# Altium footprint library SG__PCB_QFN_DFN.PcbLib: 60 footprints (part 1 of 4)
Each footprint in its own frame and in the unit in brackets; x right, y up, seen from the top. Pads: shape width x height; smd on the part's side, far side on the other; paste and mask are expansions set on the pad; w line width, h text height; cw(c..) or ccw(c..) is an arc to the next point about the centre after c.
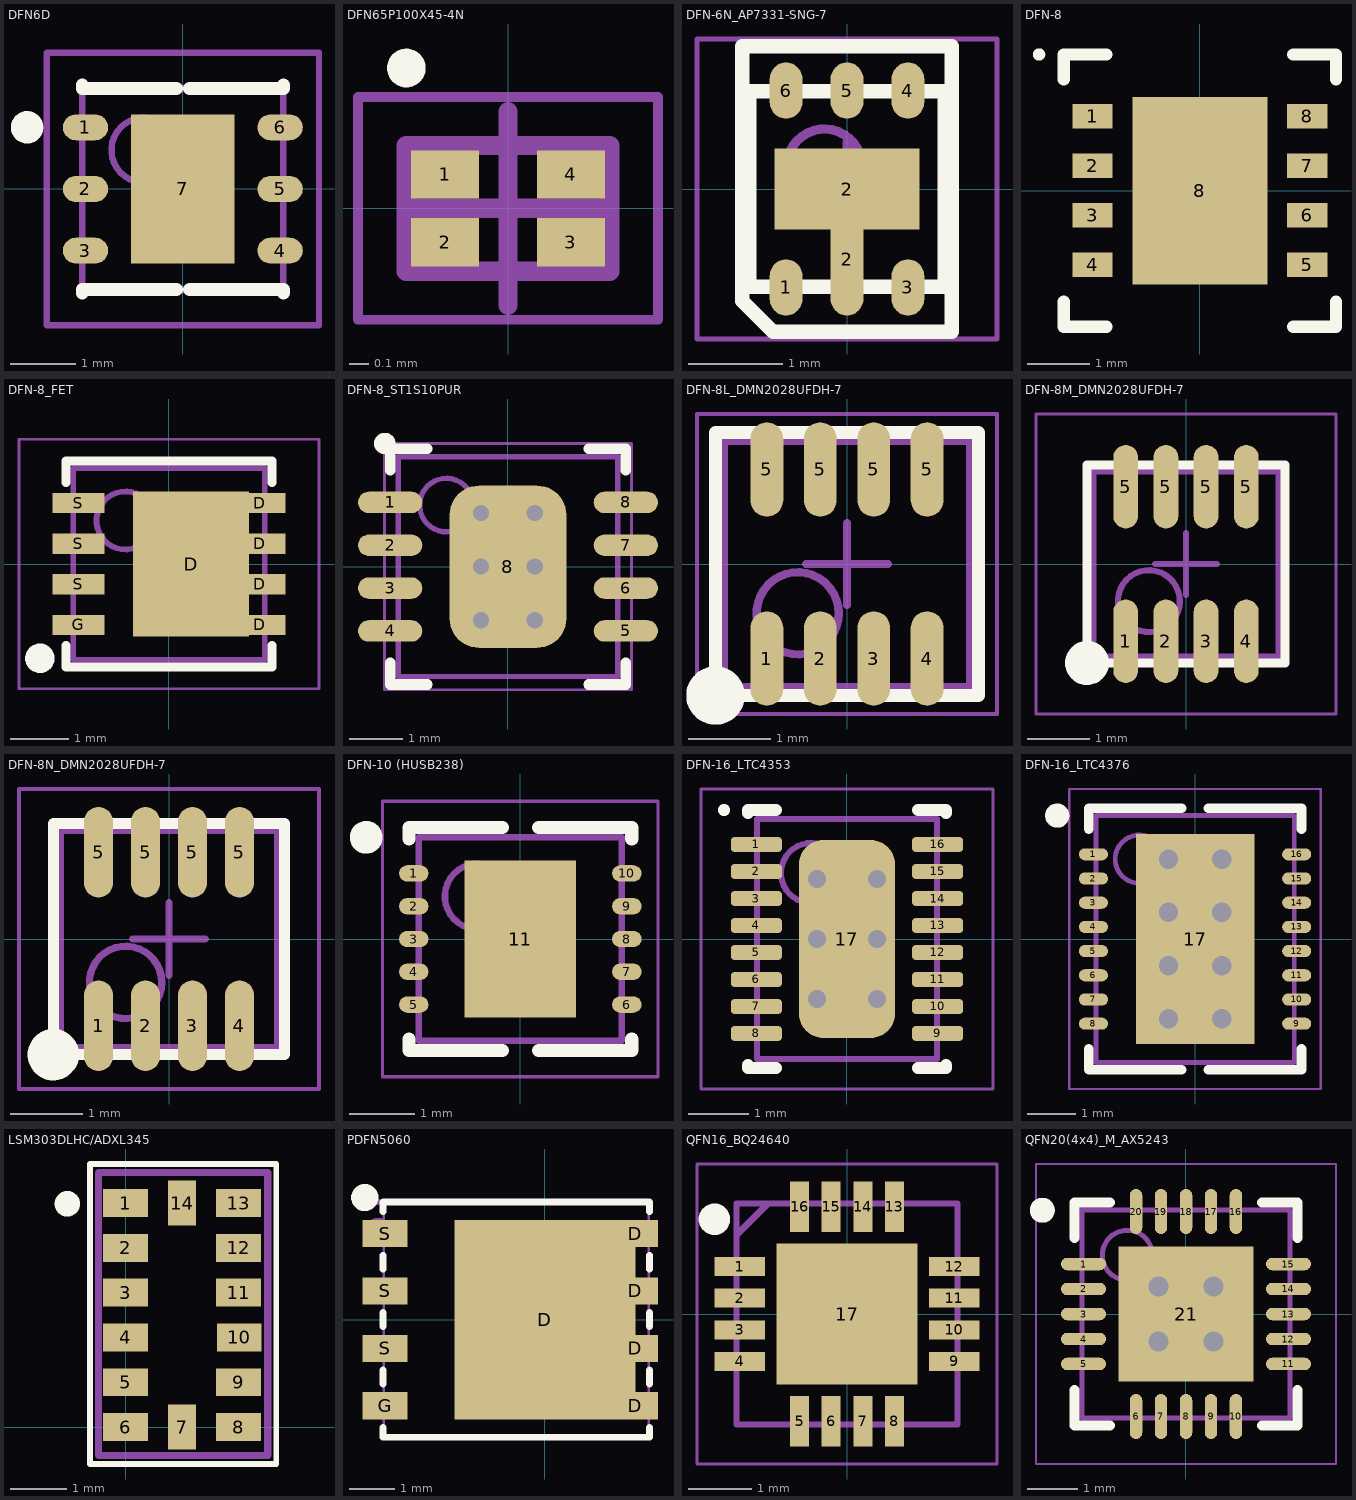
[diagram p0: the footprints below, top view; thin cyan lines are the x and y axes]

## DFN6D [mm] "QFN, 6-Leads, Body 3,1x3,1mm (max), Pitch 0,95mm, IPC Medium Density"
height 0.8
pads (7):
  oval 0.7x0.4 smd: 1(-1.5,0.95) 2(-1.5,0) 3(-1.5,-0.95) 4(1.5,-0.95) 5(1.5,0) 6(1.5,0.95)
  rect 1.6x2.3 smd: 7(0,0)
Top Overlay:
  circle w0.25: c-2.4,0.95 r0.125
  lines w0.2: -1.55,-1.6 -1.55,-1.55 -0.1,-1.55 ; -1.55,1.6 -1.55,1.55 -0.1,1.55 ; 0.1,-1.55 1.55,-1.55 1.55,-1.6 ; 0.1,1.55 1.55,1.55 1.55,1.6
Top Assembly:
  circle w0.1: c-0.6,0.6 r0.5
  lines w0.1: -1.55,-1.55 1.55,-1.55 1.55,1.55 -1.55,1.55 -1.55,-1.55
Bottom Assembly:
  lines w0.1: -0.5,0 0.5,0 ; 0,-0.5 0,0.5
Top Courtyard:
  lines w0.1: -2.1,-2.1 -2.1,2.1 2.1,2.1 2.1,-2.1 -2.1,-2.1
3D body: height 0.8, standoff 0.01, extent -1.55,-1.55 1.55,1.55

## DFN65P100X45-4N [mm] "DFN, 4-Leads, Body 0,60x1,00mm, Pitch 0,65mm, IPC Medium Density"
height 0.45
pads (4):
  rect 0.35x0.25 smd: 1(-0.325,0.175) 2(-0.325,-0.175) 3(0.325,-0.175) 4(0.325,0.175)
Top Overlay:
  circle w0.1: c-0.525,0.725 r0.05
Top Assembly:
  lines w0.1: -0.525,-0.325 0.525,-0.325 0.525,0.325 -0.525,0.325 -0.525,-0.325
Top Courtyard:
  lines w0.05: -0.775,-0.575 0.775,-0.575 0.775,0.575 -0.775,0.575 -0.775,-0.575
  lines w0.1: -0.5,0 0.5,0 ; 0,-0.5 0,0.5
3D body "DFN65P100X45-4N.step": height 0.45, standoff 0, extent -0.525,-0.325 0.525,0.325

## DFN-6N_AP7331-SNG-7 [mm] "QFN, 6-Leads, Body 2,01x2,01mm, Pitch 0,65mm, Thermal Pad 1,55x0,86mm, IPC Medium Density"
height 0.57
pads (7):
  oval 0.35x0.6 smd: 1(-0.65,-1.05) 3(0.65,-1.05) 4(0.65,1.05) 5(0,1.05) 6(-0.65,1.05)
  oval 0.35x1.2 smd: 2(0,-0.75)
  rect 1.55x0.86 smd: 2(0,0)
Top Overlay:
  lines w0.152: 0.635,-1.524 1.118,-1.524 1.118,1.524 -1.118,1.524 -1.118,-1.194 -0.787,-1.524 0.66,-1.524 ; -1.041,-1.041 1.041,-1.041 1.041,1.041 -1.041,1.041 -1.041,-1.041
Top Assembly:
  circle w0.1: c-0.24,0.24 r0.4
  lines w0.1: -1.04,-1.04 1.04,-1.04 1.04,1.04 -1.04,1.04 -1.04,-1.04
Top Courtyard:
  lines w0.05: -1.6,-1.6 1.6,-1.6 1.6,1.6 -1.6,1.6 -1.6,-1.6
  lines w0.1: -0.5,0 0.5,0 ; 0,-0.5 0,0.5
3D body "DFN2020-6_AP7331-SNG-7.step": height 0.57, standoff 0, extent -1.04,-1.09 1.04,1.09

## DFN-8 [mm] "PSON, 8-Leads, Body 4,00x4,00mm, Pitch 0,80mm, Thermal Pad 3,03x2,18mm, IPC Medium Density"
pads (9):
  rect 0.65x0.4 smd: 1(-1.735,1.2) 2(-1.735,0.4) 3(-1.735,-0.4) 4(-1.735,-1.2) 5(1.735,-1.2) 6(1.735,-0.4) 7(1.735,0.4) 8(1.735,1.2)
  rect 2.18x3.03 smd paste-1.09: 8(0,0)
Top Overlay:
  circle w0.1: c-2.6,2.2 r0.05
  lines w0.2: -2.2,-1.8 -2.2,-2.2 -1.51,-2.2 ; -2.2,1.8 -2.2,2.2 -1.51,2.2 ; 1.51,-2.2 2.2,-2.2 2.2,-1.8 ; 1.51,2.2 2.2,2.2 2.2,1.8
Top Paste:
  rectangle: 0.1,-1.42 0.99,-0.1
  rectangle: 0.1,0.1 0.99,1.42
  rectangle: -0.99,-1.42 -0.1,-0.1
  rectangle: -0.99,0.1 -0.1,1.42

## DFN-8_FET [mm] "SON, 8-Leads, Body 3,30x3,30mm, Pitch 0,70mm, IPC Low Density"
height 0.85
pads (9):
  rect 2x2.5 smd: D(0.381,0)
  rect 0.9x0.35 smd: D(1.56,-1.05) D(1.56,-0.35) D(1.56,0.35) D(1.56,1.05) G(-1.56,-1.05) S(-1.56,-0.35) S(-1.56,0.35) S(-1.56,1.05)
Top Overlay:
  circle w0.254: c-2.225,-1.625 r0.127
  lines w0.152: -1.775,-1.4 -1.775,-1.775 1.775,-1.775 1.775,-1.4 ; -1.775,1.4 -1.775,1.775 1.775,1.775 1.775,1.4
Top Assembly:
  circle w0.1: c-0.75,0.75 r0.5
  lines w0.1: -1.65,-1.65 -1.65,1.65 1.65,1.65 1.65,-1.65 -1.65,-1.65
Top Courtyard:
  lines w0.05: -2.585,-2.15 -2.585,2.15 2.585,2.15 2.585,-2.15 -2.585,-2.15
  lines w0.1: -0.5,0 0.5,0 ; 0,-0.5 0,0.5
3D body "SON70P330X85-8M.step": height 0.85, standoff 0, extent -1.65,-1.65 1.65,1.65

## DFN-8_ST1S10PUR [mm] "PSON, 8-Leads, Body 4,00x4,00mm, Pitch 0,80mm, Thermal Pad 3,03x2,18mm, IPC Medium Density"
height 0.9
pads (9):
  oval 1.2x0.4 smd: 1(-2.2,1.2) 2(-2.2,0.4) 3(-2.2,-0.4) 4(-2.2,-1.2) 5(2.2,-1.2) 6(2.2,-0.4) 7(2.2,0.4) 8(2.2,1.2)
  rrect50% 2.18x3.03 smd paste-1.09: 8(0,0)
via -0.5,-1 diameter 0.6 hole 0.3
via -0.5,0 diameter 0.6 hole 0.3
via -0.5,1 diameter 0.6 hole 0.3
via 0.5,1 diameter 0.6 hole 0.3
via 0.5,0 diameter 0.6 hole 0.3
via 0.5,-1 diameter 0.6 hole 0.3
Top Overlay:
  circle w0.2: c-2.3,2.3 r0.1
  lines w0.2: -2.2,-1.8 -2.2,-2.2 -1.51,-2.2 ; -2.2,1.8 -2.2,2.2 -1.51,2.2 ; 1.51,-2.2 2.2,-2.2 2.2,-1.8 ; 1.51,2.2 2.2,2.2 2.2,1.8
Top Paste:
  rectangle: -0.99,0.1 -0.1,1.42
  rectangle: -0.99,-1.42 -0.1,-0.1
  rectangle: 0.1,0.1 0.99,1.42
  rectangle: 0.1,-1.42 0.99,-0.1
Top Assembly:
  circle w0.1: c-1.15,1.15 r0.5
  lines w0.1: -2.05,-2.05 2.05,-2.05 2.05,2.05 -2.05,2.05 -2.05,-2.05
Top Courtyard:
  lines w0.05: -2.305,-2.3 -2.305,2.3 2.305,2.3 2.305,-2.3 -2.305,-2.3
  lines w0.1: -0.5,0 0.5,0 ; 0,-0.5 0,0.5
3D body: height 0.9, standoff 0.02, extent -2.05,-2.05 2.05,2.05

## DFN-8L_DMN2028UFDH-7 [mm] "QFN, 8-Leads, Body 3,00x3,00mm, Pitch 0,65mm, IPC High Density"
height 0.8
pads (8):
  oval 0.4x1.15 smd: 1(-0.975,-1.15) 2(-0.325,-1.15) 3(0.325,-1.15) 4(0.975,-1.15) 5(-0.975,1.15) 5(-0.325,1.15) 5(0.325,1.15) 5(0.975,1.15)
Top Overlay:
  circle w0.356: c-1.6,-1.6 r0.178
  lines w0.152: -1.6,-1.6 1.6,-1.6 1.6,1.6 -1.6,1.6 -1.6,-1.6
Top Assembly:
  circle w0.1: c-0.6,-0.6 r0.5
  lines w0.1: -1.5,-1.5 1.5,-1.5 1.5,1.5 -1.5,1.5 -1.5,-1.5
Top Courtyard:
  lines w0.05: -1.825,-1.825 1.825,-1.825 1.825,1.825 -1.825,1.825 -1.825,-1.825
  lines w0.1: -0.5,0 0.5,0 ; 0,-0.5 0,0.5
3D body "QFN65P300X300X80-8L.step": height 0.8, standoff 0, extent -1.52,-1.5 1.52,1.5

## DFN-8M_DMN2028UFDH-7 [mm] "QFN, 8-Leads, Body 3,00x3,00mm, Pitch 0,65mm, IPC Low Density"
height 0.8
pads (8):
  oval 0.4x1.35 smd: 1(-0.975,-1.25) 2(-0.325,-1.25) 3(0.325,-1.25) 4(0.975,-1.25) 5(-0.975,1.25) 5(-0.325,1.25) 5(0.325,1.25) 5(0.975,1.25)
Top Overlay:
  circle w0.356: c-1.6,-1.6 r0.178
  lines w0.152: -1.6,-1.6 1.6,-1.6 1.6,1.6 -1.6,1.6 -1.6,-1.6
Top Assembly:
  circle w0.1: c-0.6,-0.6 r0.5
  lines w0.1: -1.5,-1.5 -1.5,1.5 1.5,1.5 1.5,-1.5 -1.5,-1.5
Top Courtyard:
  lines w0.05: -2.425,-2.425 -2.425,2.425 2.425,2.425 2.425,-2.425 -2.425,-2.425
  lines w0.1: -0.5,0 0.5,0 ; 0,-0.5 0,0.5
3D body "QFN65P300X300X80-8M.step": height 0.8, standoff 0, extent -1.52,-1.5 1.52,1.5

## DFN-8N_DMN2028UFDH-7 [mm] "QFN, 8-Leads, Body 3,00x3,00mm, Pitch 0,65mm, IPC Medium Density"
height 0.8
pads (8):
  oval 0.4x1.25 smd: 1(-0.975,-1.2) 2(-0.325,-1.2) 3(0.325,-1.2) 4(0.975,-1.2) 5(-0.975,1.2) 5(-0.325,1.2) 5(0.325,1.2) 5(0.975,1.2)
Top Overlay:
  circle w0.356: c-1.6,-1.6 r0.178
  lines w0.152: -1.6,-1.6 -1.6,1.6 1.6,1.6 1.6,-1.6 -1.6,-1.6
Top Assembly:
  circle w0.1: c-0.6,-0.6 r0.5
  lines w0.1: -1.5,-1.5 -1.5,1.5 1.5,1.5 1.5,-1.5 -1.5,-1.5
Top Courtyard:
  lines w0.05: -2.075,-2.075 -2.075,2.075 2.075,2.075 2.075,-2.075 -2.075,-2.075
  lines w0.1: -0.5,0 0.5,0 ; 0,-0.5 0,0.5
3D body "QFN65P300X300X80-8N.step": height 0.8, standoff 0, extent -1.5,-1.52 1.5,1.52

## DFN-10 (HUSB238) [mm] "DFN, 10-Leads, Body 3,00x3,00mm, Pitch 0,50mm, Thermal Pad 1,70x2,40mm, IPC Medium Density"
height 1
pads (11):
  oval 0.45x0.25 smd: 1(-1.625,1) 2(-1.625,0.5) 3(-1.625,0) 4(-1.625,-0.5) 5(-1.625,-1) 6(1.625,-1) 7(1.625,-0.5) 8(1.625,0) 9(1.625,0.5) 10(1.625,1)
  rect 1.7x2.4 smd: 11(0,0)
Top Overlay:
  circle w0.25: c-2.35,1.55 r0.125
  lines w0.2: -1.7,-1.525 -1.7,-1.7 -0.275,-1.7 ; -1.7,1.525 -1.7,1.7 -0.275,1.7 ; 0.275,-1.7 1.7,-1.7 1.7,-1.525 ; 0.275,1.7 1.7,1.7 1.7,1.525
Top Assembly:
  circle w0.1: c-0.65,0.65 r0.5
  lines w0.1: -1.55,-1.55 1.55,-1.55 1.55,1.55 -1.55,1.55 -1.55,-1.55
Top Courtyard:
  lines w0.05: -2.1,-2.1 2.1,-2.1 2.1,2.1 -2.1,2.1 -2.1,-2.1
  lines w0.1: -0.5,0 0.5,0 ; 0,-0.5 0,0.5
3D body "DFN-10 ().step": height 1, standoff 0, extent -1.6,-1.55 1.6,1.55

## DFN-16_LTC4353 [mm]
height 0.75
pads (17):
  rrect50% 0.85x0.25 smd: 1(-1.51,1.575) 2(-1.51,1.125) 3(-1.51,0.675) 4(-1.51,0.225) 5(-1.51,-0.225) 6(-1.51,-0.675) 7(-1.51,-1.125) 8(-1.51,-1.575) 9(1.51,-1.575) 10(1.51,-1.125) 11(1.51,-0.675) 12(1.51,-0.225) 13(1.51,0.225) 14(1.51,0.675) 15(1.51,1.125) 16(1.51,1.575)
  rrect50% 1.6x3.3 smd: 17(0,0)
via 0.5,-1 diameter 0.6 hole 0.3
via -0.5,-1 diameter 0.6 hole 0.3
via 0.5,0 diameter 0.6 hole 0.3
via -0.5,0 diameter 0.6 hole 0.3
via 0.5,1 diameter 0.6 hole 0.3
via -0.5,1 diameter 0.6 hole 0.3
Top Overlay:
  circle w0.1: c-2.05,2.15 r0.05
  lines w0.2: -1.65,-2.1 -1.65,-2.15 -1.185,-2.15 ; -1.65,2.1 -1.65,2.15 -1.185,2.15 ; 1.185,-2.15 1.65,-2.15 1.65,-2.1 ; 1.185,2.15 1.65,2.15 1.65,2.1
Top Assembly:
  circle w0.1: c-0.6,1.1 r0.5
  lines w0.1: -1.5,-2 1.5,-2 1.5,2 -1.5,2 -1.5,-2
Top Courtyard:
  lines w0.05: -2.435,-2.5 2.435,-2.5 2.435,2.5 -2.435,2.5 -2.435,-2.5
  lines w0.1: -0.5,0 0.5,0 ; 0,-0.5 0,0.5
3D body: height 0.75, standoff 0.05, extent -1.5,-2 1.5,2

## DFN-16_LTC4376 [mm] "DFN, 16-Leads, Body 4,00x5,00mm, Pitch 0,50mm, Thermal Pad 2,45x4,35mm, IPC Medium Density"
height 0.75
pads (17):
  oval 0.6x0.25 smd: 1(-2.1,1.75) 2(-2.1,1.25) 3(-2.1,0.75) 4(-2.1,0.25) 5(-2.1,-0.25) 6(-2.1,-0.75) 7(-2.1,-1.25) 8(-2.1,-1.75) 9(2.1,-1.75) 10(2.1,-1.25) 11(2.1,-0.75) 12(2.1,-0.25) 13(2.1,0.25) 14(2.1,0.75) 15(2.1,1.25) 16(2.1,1.75)
  rect 2.45x4.35 smd: 17(0,0)
via 0.55,-1.65 diameter 0.8 hole 0.4
via -0.55,-1.65 diameter 0.8 hole 0.4
via 0.55,-0.55 diameter 0.8 hole 0.4
via -0.55,-0.55 diameter 0.8 hole 0.4
via 0.55,0.55 diameter 0.8 hole 0.4
via -0.55,0.55 diameter 0.8 hole 0.4
via 0.55,1.65 diameter 0.8 hole 0.4
via -0.55,1.65 diameter 0.8 hole 0.4
Top Overlay:
  circle w0.25: c-2.85,2.55 r0.125
  lines w0.2: -2.2,-2.275 -2.2,-2.7 -0.275,-2.7 ; -2.2,2.275 -2.2,2.7 -0.275,2.7 ; 0.275,-2.7 2.2,-2.7 2.2,-2.275 ; 0.275,2.7 2.2,2.7 2.2,2.275
Top Assembly:
  circle w0.1: c-1.15,1.65 r0.5
  lines w0.1: -2.05,-2.55 2.05,-2.55 2.05,2.55 -2.05,2.55 -2.05,-2.55
Top Courtyard:
  lines w0.05: -2.6,-3.1 2.6,-3.1 2.6,3.1 -2.6,3.1 -2.6,-3.1
  lines w0.1: -0.5,0 0.5,0 ; 0,-0.5 0,0.5
3D body "DFN-16-5x4-0_5.STEP": height 0.8, standoff 0, extent -2.06,-2.55 2.06,2.55

## LSM303DLHC/ADXL345 [mm]
height 0.8
pads (14):
  rect 0.8x0.5 smd: 1(0,4) 2(0,3.2) 3(0,2.4) 4(0,1.6) 5(0,0.8) 6(0,0) 8(2.02,0) 9(2.02,0.8) 10(2.032,1.6) 11(2.02,2.4) 12(2.02,3.2) 13(2.02,4)
  rect 0.5x0.8 smd: 7(1.01,0) 14(1.01,4)
Top Overlay:
  circle w0.254: c-1.04,3.988 r0.1
  lines w0.1: -0.635,-0.66 -0.635,4.699 2.692,4.699 2.692,-0.66 -0.635,-0.66
Top Assembly:
  lines w0.127: -0.483,-0.508 -0.483,4.547 2.54,4.547 2.54,-0.508 -0.483,-0.508
3D body: height 1, standoff 0, extent -0.483,-0.508 2.54,4.547

## PDFN5060 [mm]
height 0.85
pads (9):
  rect 4x4.41 smd paste-100 mask+0.05: D(0,0)
  rect 1x0.6 smd paste-100 mask+0.05: D(2,-1.905) D(2,-0.635) D(2,0.635) D(2,1.905) G(-3.535,-1.905) S(-3.535,-0.635) S(-3.535,0.635) S(-3.535,1.905)
Top Overlay:
  circle w0.3: c-3.985,2.7 r0.15
  lines w0.152: -3.585,-2.385 -3.585,-2.6 2.315,-2.6 2.315,-2.385 ; -3.585,-1.425 -3.585,-1.115 ; -3.585,-0.155 -3.585,0.155 ; -3.585,1.115 -3.585,1.425 ; -3.585,2.385 -3.585,2.6 2.315,2.6 2.315,2.385 ; 2.315,-1.425 2.315,-1.115 ; 2.315,-0.155 2.315,0.155 ; 2.315,1.115 2.315,1.425
Top Paste:
  region: -4.035,2.205 -4.035,1.605 -3.035,1.605 -3.035,2.205
  region: -4.035,0.935 -4.035,0.335 -3.035,0.335 -3.035,0.935
  region: -4.035,-0.335 -4.035,-0.935 -3.035,-0.935 -3.035,-0.335
  region: -4.035,-1.605 -4.035,-2.205 -3.035,-2.205 -3.035,-1.605
  region: 2.465,-2.205 2.465,-1.605 2,-1.605 2,-0.935 2.465,-0.935 2.465,-0.335 2,-0.335 2,0.335 2.465,0.335 2.465,0.935 2,0.935 2,1.605 2.465,1.605 2.465,2.205 -2,2.205 -2,-2.205
Top Assembly:
  circle w0.3: c-3.685,1.95 r0.15
Top Courtyard:
  lines w0.051: -3.565,-2.6 2.295,-2.6 2.295,2.6 -3.565,2.6 -3.565,-2.6
Mechanical 15:
  region: -3.685,2.54 -3.661,2.54 -3.626,2.575 -3.626,2.624 -3.661,2.659 -3.685,2.66 -3.71,2.659 -3.744,2.624 -3.744,2.575 -3.71,2.54
3D body "User Library-PDFN5060-8L.STEP": height 1.1, standoff -0.01, extent -3.81,-2.7 2.35,2.65

## QFN16_BQ24640 [mm]
height 0.85
pads (17):
  rect 0.8x0.3 smd: 1(-1.7,0.75) 2(-1.7,0.25) 3(-1.7,-0.25) 4(-1.7,-0.75) 9(1.7,-0.75) 10(1.7,-0.25) 11(1.7,0.25) 12(1.7,0.75)
  rect 0.3x0.8 smd: 5(-0.75,-1.7) 6(-0.25,-1.7) 7(0.25,-1.7) 8(0.75,-1.7) 13(0.75,1.7) 14(0.25,1.7) 15(-0.25,1.7) 16(-0.75,1.7)
  rect 2.24x2.24 smd: 17(0,0)
Top Overlay:
  circle w0.25: c-2.1,1.5 r0.125
Top Assembly:
  lines w0.1: -1.75,1.25 -1.25,1.75 ; -1.75,-1.75 1.75,-1.75 1.75,1.75 -1.75,1.75 -1.75,-1.75
Top Courtyard:
  lines w0.05: -2.375,-2.375 2.375,-2.375 2.375,2.375 -2.375,2.375 -2.375,-2.375
3D body "BQ24640RVAR.stp": height 1, standoff 0, extent -1.8,-1.8 1.8,1.8

## QFN20(4x4)_M_AX5243 [mm] "QFN, 20-Leads, Body 4x4mm, Pitch 0.5mm, Thermal Pad 2.7x2.7mm, IPC Low Density"
height 1
pads (21):
  oval 0.9x0.25 smd: 1(-2.05,1) 2(-2.05,0.5) 3(-2.05,0) 4(-2.05,-0.5) 5(-2.05,-1) 11(2.05,-1) 12(2.05,-0.5) 13(2.05,0) 14(2.05,0.5) 15(2.05,1)
  oval 0.25x0.9 smd: 6(-1,-2.05) 7(-0.5,-2.05) 8(0,-2.05) 9(0.5,-2.05) 10(1,-2.05) 16(1,2.05) 17(0.5,2.05) 18(0,2.05) 19(-0.5,2.05) 20(-1,2.05)
  rect 2.7x2.7 smd: 21(0,0)
via 0.55,0.55 diameter 0.8 hole 0.4
via -0.55,0.55 diameter 0.8 hole 0.4
via 0.55,-0.55 diameter 0.8 hole 0.4
via -0.55,-0.55 diameter 0.8 hole 0.4
Top Overlay:
  circle w0.25: c-2.875,2.075 r0.125
  lines w0.2: -2.225,-1.525 -2.225,-2.225 -1.525,-2.225 ; -2.225,1.525 -2.225,2.225 -1.525,2.225 ; 1.525,-2.225 2.225,-2.225 2.225,-1.525 ; 1.525,2.225 2.225,2.225 2.225,1.525
Top Assembly:
  circle w0.1: c-1.175,1.175 r0.5
  lines w0.1: -2.075,-2.075 2.075,-2.075 2.075,2.075 -2.075,2.075 -2.075,-2.075
Top Courtyard:
  lines w0.05: -3,-3 3,-3 3,3 -3,3 -3,-3
  lines w0.1: -0.5,0 0.5,0 ; 0,-0.5 0,0.5
3D body: height 1, standoff 0, extent -2.075,-2.075 2.075,2.075